# Altium footprint library DO41.PcbLib: 2 footprints
Each footprint in its own frame and in the unit in brackets; x right, y up, seen from the top. Pads: shape width x height; smd on the part's side, far side on the other; paste and mask are expansions set on the pad; w line width, h text height; cw(c..) or ccw(c..) is an arc to the next point about the centre after c.
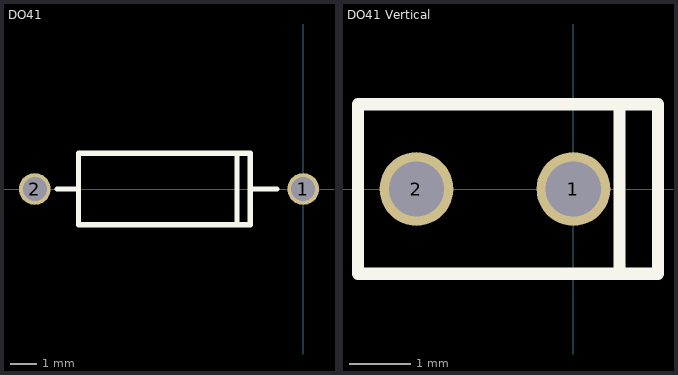
[diagram p0: the footprints below, top view; thin cyan lines are the x and y axes]

## DO41 [mm]
pads (2):
  round 1.2 hole 0.9: 1(0,0) 2(-10.15,0)
Top Overlay:
  lines w0.2: -9.3,0 -8.5,0 ; -2.5,-1.35 -2.5,1.35 ; -1,0 -2,0 ; -2,0 -2,-1.35 -8.5,-1.35 -8.5,1.35 -2,1.35 -2,0
3D body: height 3.35, standoff -2, extent -10.58,-1.35 0.44,1.35

## DO41 Vertical [mm]
pads (2):
  round 1.2 hole 0.9: 1(0,0) 2(-2.55,0)
Top Overlay:
  lines w0.2: 0.75,-1.375 0.75,1.375 ; -3.5,-1.375 1.375,-1.375 1.375,1.375 -3.5,1.375 -3.5,-1.375
3D body: height 9.64, standoff -4.5, extent -2.97,-1.365 1.365,1.365